# EAGLE library part 734-238/100-000 (library con-wago_3.81mm)
Serie 734, Stiftleiste (für Leiterplatten) Einpressstift 0,6 x 0,6 mm / Series 734, Male header (for PCBs) Press-in pin 0.6 x 0.6 mm Polzahl / Pole No.: 8 Rastermaß / Pitch: 3.81 mm Bemessungsspannung / Rated Voltage: 160 V Nennstrom / Nominal Current: 8 A Farbe / Color: orange / orange Stand: 01.01.2012. Die jeweils aktuellen Daten zu diesem Artikel finden Sie in unserem Produktkatalog, den Sie unter www.wago.com einsehen können. As of: 01/01/2012. Please find the newest data for this article in our product catalogue, which can be viewed under www.wago.com.
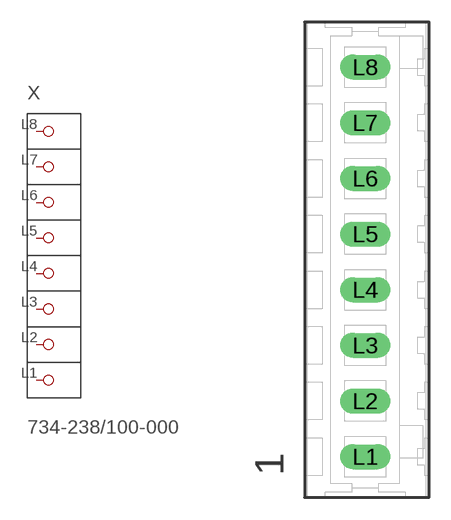
[diagram p17: symbol with the pads of P-734-238/100-000; footprint P-734-238/100-000]

Designator prefix X

## 734-238/100-000  [P-734-238/100-000]
L1  P1
L2  P2
L3  P3
L4  P4
L5  P5
L6  P6
L7  P7
L8  P8

## Footprint P-734-238/100-000 (pad centres in mm)
drill 1.15 long: L1 -0.1,-13.485; L2 -0.1,-9.675; L3 -0.1,-5.865; L4 -0.1,-2.055; L5 -0.1,1.755; L6 -0.1,5.565; L7 -0.1,9.375; L8 -0.1,13.185